# Altium schematic symbol library Memory.SchLib: 1 symbol
Pins are listed as number, name and electrical type; pins without a type are passive.

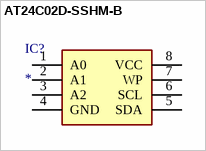
[diagram p0: symbol AT24C02D-SSHM-B]

## AT24C02D-SSHM-B
designator IC?
Integrated Circuit; Manufacturer_Name: Microchip; Manufacturer_Part_Number: AT24C02D-SSHM-B; Datasheet Link: http://www.atmel.com/images/Atmel-8871-SEEPROM-AT24C01D-02D-Datasheet.pdf; Height: 1.75mm; Mouser Part Number: 556-AT24C02D-SSHM-B; Mouser Price/Stock: https://www.mouser.co.uk/ProductDetail/Microchip-Technology/AT24C02D-SSHM-B?qs=l5F7KFZg3O5xH%2Fgf1EqmGg%3D%3D; Arrow Part Number: AT24C02D-SSHM-B; Arrow Price/Stock: https://www.arrow.com/en/products/at24c02d-sshm-b/microchip-technology?region=europe
footprint SOIC127P600X175-8N
pins: 1 A0, 2 A1, 3 A2, 4 GND, 5 SDA, 6 SCL, 7 WP, 8 VCC